# Altium schematic symbol library 54819-0519.SchLib: 1 symbol
Pins are listed as number, name and electrical type; pins without a type are passive.

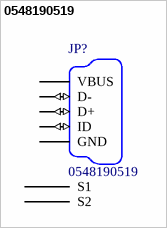
[diagram p0: symbol 0548190519]

## 0548190519
designator JP?
USB - mini B USB 2.0 OTG Receptacle Connector 5 Position Through Hole, Right Angle; PartDescription: CONN RCPT USB2.0 MINI B 5P R/A; MF: Molex; Value: *; SnapEDA_Link: https://www.snapeda.com/parts/0548190519/Molex/view-part/512025/?ref=snap; Digi-Key_Part_Number: WM17115-ND; Package: None; MP: 0548190519; Digi-Key_Purchase_URL: https://www.digikey.com/product-detail/en/molex/0548190519/WM17115-ND/773802?utm_source=snapeda&utm_medium=aggregator&utm_campaign=symbol; Supplier 1: Mouser; Supplier Part Number 1: 538-54819-0519; Manufacturer: Molex; PartNumber: 0548190519; Package Type: 5 TH
footprint 54819-0519_MOL
pins: 1 VBUS (power), 2 D- (io), 3 D+ (io), 4 ID (io), 5 GND (power), 6 S1, 7 S2